# EAGLE library part 74AC11157 (library 74ac-logic)
Quadruple 2 to 1 line DATA SELECTOR/MULTIPLEXER
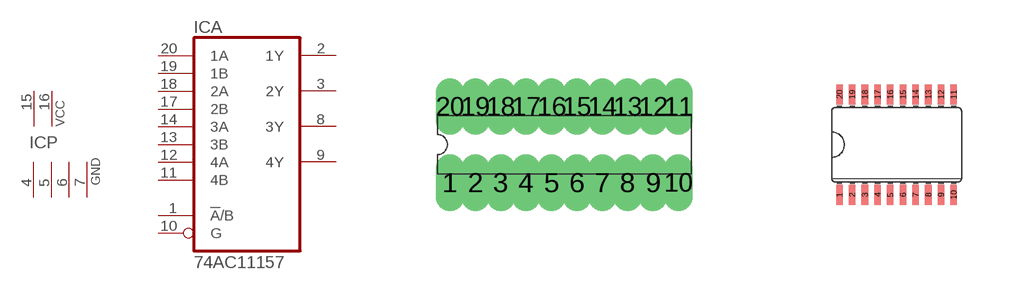
[diagram p19: symbol with the pads of DIL20; footprints DIL20, SO20W]

Designator prefix IC; gates A=7411157 P=2PWR4GND

## 74AC11157  [DIL20]
1  A:!A!/B  in
2  A:1Y  out
3  A:2Y  out
4  P:GND  pwr
5  P:GND  pwr
6  P:GND  pwr
7  P:GND  pwr
8  A:3Y  out
9  A:4Y  out
10  A:G  in
11  A:4B  in
12  A:4A  in
13  A:3B  in
14  A:3A  in
15  P:VCC  pwr
16  P:VCC  pwr
17  A:2B  in
18  A:2A  in
19  A:1B  in
20  A:1A  in

## 74AC11157D  [SO20W]
Pads as for DIL20

## Footprint DIL20 (pad centres in mm)
Dual In Line Package
drill 0.203 long: 1 -2.857,-0.953; 2 -2.223,-0.953; 3 -1.587,-0.953; 4 -0.953,-0.953; 5 -0.318,-0.953; 6 0.318,-0.953; 7 0.953,-0.953; 8 1.587,-0.953; 9 2.223,-0.953; 10 2.857,-0.953; 11 2.857,0.953; 12 2.223,0.953; 13 1.587,0.953; 14 0.953,0.953; 15 0.318,0.953; 16 -0.318,0.953; 17 -0.953,0.953; 18 -1.587,0.953; 19 -2.223,0.953; 20 -2.857,0.953

## Footprint SO20W (pad centres in mm)
Wide Small Outline package 300 mil
smd 0.165 x 0.508: 1 -1.429,-1.257; 2 -1.111,-1.257; 3 -0.794,-1.257; 4 -0.476,-1.257; 5 -0.159,-1.257; 6 0.159,-1.257; 7 0.476,-1.257; 8 0.794,-1.257; 9 1.111,-1.257; 10 1.429,-1.257; 11 1.429,1.257; 12 1.111,1.257; 13 0.794,1.257; 14 0.476,1.257; 15 0.159,1.257; 16 -0.159,1.257; 17 -0.476,1.257; 18 -0.794,1.257; 19 -1.111,1.257; 20 -1.429,1.257